# Altium schematic symbol library CL21A106KAFN3NE.SchLib: 1 symbol
Pins are listed as number, name and electrical type; pins without a type are passive.

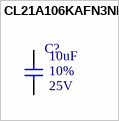
[diagram p0: symbol CL21A106KAFN3NE]

## CL21A106KAFN3NE
designator C?  Rated Voltage: 25V  Tolerance: 10%  Capacitence: 10uF  (hidden comment: CL21A106KAFN3NE)
CAP CER 10UF 25V X5R 0805; MFR: Samsung Electro-Mechanics; PN: CL21A106KAFN3NE; ComponentLink1Description: Datasheet; ComponentLink1URL: http://www.samsungsem.com/kr/support/product-search/mlcc/CL21A106KAFN3NE.jsp; Temperature Coefficient: X5R; Package: 0805; Footprint: C0805; Supplier 1: Digi-Key; Supplier Part Number 1: 1276-2890-1-ND
footprint C0805 (A generic C0805 footprint)
pins: 1, 2